# EAGLE library part 610026243021 (library Wuerth_Elektronik_eiCan_Pin_&_Socked_Headers_v1.3)
WR-PHD 2.54mm SMT Dual Socket Header Bottom Entry, 26 Pins
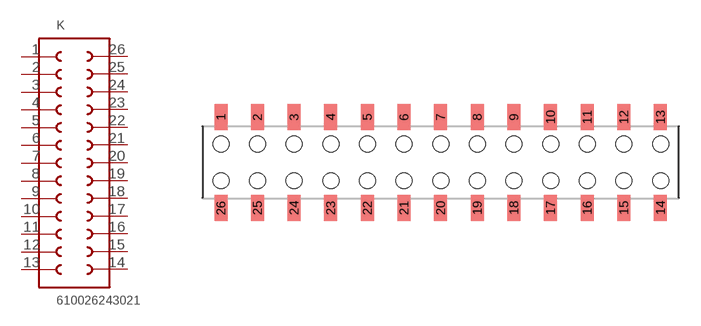
[diagram p227: symbol with the pads of 610026243021; footprint 610026243021]

Designator prefix K

## 610026243021  [610026243021]
1  1  pas
2  2  pas
3  3  pas
4  4  pas
5  5  pas
6  6  pas
7  7  pas
8  8  pas
9  9  pas
10  10  pas
11  11  pas
12  12  pas
13  13  pas
14  14  pas
15  15  pas
16  16  pas
17  17  pas
18  18  pas
19  19  pas
20  20  pas
21  21  pas
22  22  pas
23  23  pas
24  24  pas
25  25  pas
26  26  pas

## Footprint 610026243021 (pad centres in mm)
WR-PHD 2.54mm SMT Dual Socket Header Bottom Entry, 26 Pins
smd 0.9 x 1.8: 1 -19.05,3.15; 2 -16.52,3.14; 3 -13.98,3.14; 4 -11.44,3.14; 5 -8.9,3.14; 6 -6.36,3.14; 7 -3.82,3.14; 8 -1.28,3.14; 9 1.26,3.14; 10 3.8,3.14; 11 6.34,3.14; 12 8.88,3.14; 13 11.42,3.14; 14 11.42,-3.16; 15 8.88,-3.16; 16 6.34,-3.16; 17 3.8,-3.16; 18 1.26,-3.16; 19 -1.28,-3.16; 20 -3.82,-3.16; 21 -6.36,-3.16; 22 -8.9,-3.16; 23 -11.44,-3.16; 24 -13.98,-3.16; 25 -16.52,-3.16; 26 -19.05,-3.17
hole 1.1 at -19.05,1.27
hole 1.1 at -16.51,1.27
hole 1.1 at -16.51,-1.27
hole 1.1 at -19.05,-1.27
hole 1.1 at -13.97,1.27
hole 1.1 at -13.97,-1.27
hole 1.1 at -11.43,1.27
hole 1.1 at -11.43,-1.27
hole 1.1 at -8.89,1.27
hole 1.1 at -8.89,-1.27
hole 1.1 at -6.35,1.27
hole 1.1 at -6.35,-1.27
hole 1.1 at -3.81,1.27
hole 1.1 at -3.81,-1.27
hole 1.1 at -1.27,1.27
hole 1.1 at -1.27,-1.27
hole 1.1 at 1.27,1.27
hole 1.1 at 1.27,-1.27
hole 1.1 at 3.81,1.27
hole 1.1 at 3.81,-1.27
hole 1.1 at 6.35,1.27
hole 1.1 at 6.35,-1.27
hole 1.1 at 8.89,1.27
hole 1.1 at 8.89,-1.27
hole 1.1 at 11.43,1.27
hole 1.1 at 11.43,-1.27